# EAGLE library part ISP2032T (library my_relai)
Lattice isp2032T Electrically Programmable and Erasable Chip
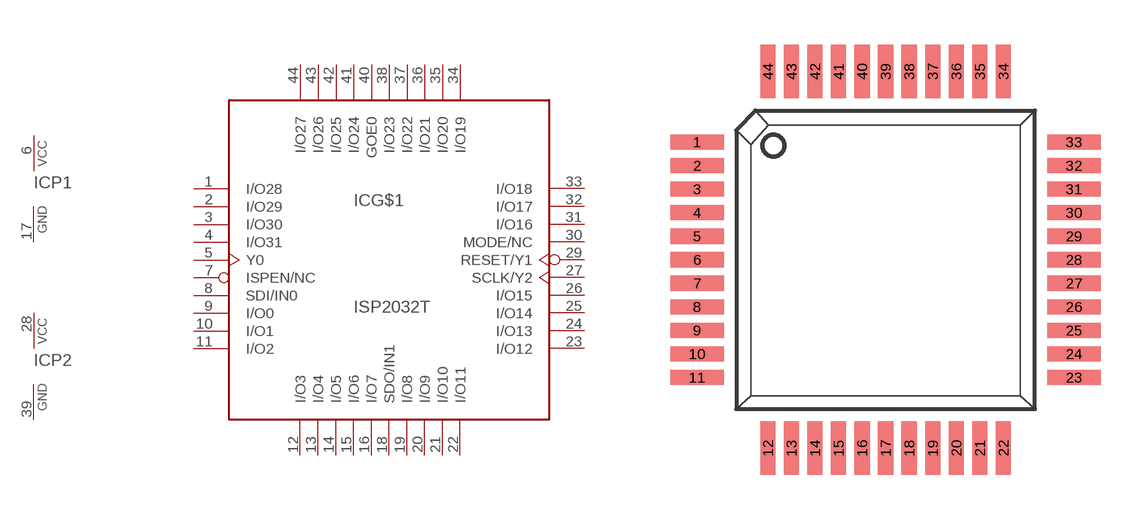
[diagram p2: symbol with the pads of QFP44; footprint QFP44]

Designator prefix IC; gates G$1=ISP2032T P1=PWRN P2=PWRN

## ISP2032T  [QFP44]
1  G$1:I/O28
2  G$1:I/O29
3  G$1:I/O30
4  G$1:I/O31
5  G$1:Y0  in
6  P1:VCC  pwr
7  G$1:ISPEN/NC  in
8  G$1:SDI/IN0  in
9  G$1:I/O0
10  G$1:I/O1
11  G$1:I/O2
12  G$1:I/O3
13  G$1:I/O4
14  G$1:I/O5
15  G$1:I/O6
16  G$1:I/O7
17  P1:GND  pwr
18  G$1:SDO/IN1
19  G$1:I/O8
20  G$1:I/O9
21  G$1:I/O10
22  G$1:I/O11
23  G$1:I/O12
24  G$1:I/O13
25  G$1:I/O14
26  G$1:I/O15
27  G$1:SCLK/Y2  in
28  P2:VCC  pwr
29  G$1:RESET/Y1  in
30  G$1:MODE/NC  in
31  G$1:I/O16
32  G$1:I/O17
33  G$1:I/O18
34  G$1:I/O19
35  G$1:I/O20
36  G$1:I/O21
37  G$1:I/O22
38  G$1:I/O23
39  P2:GND  pwr
40  G$1:GOE0  in
41  G$1:I/O24
42  G$1:I/O25
43  G$1:I/O26
44  G$1:I/O27

## Footprint QFP44 (pad centres in mm)
smd 1.778 x 0.508: 1 -6.299,3.937; 2 -6.299,3.15; 3 -6.299,2.362; 4 -6.299,1.575; 5 -6.299,0.787; 6 -6.299,0; 7 -6.299,-0.787; 8 -6.299,-1.575; 9 -6.299,-2.362; 10 -6.299,-3.15; 11 -6.299,-3.937; 23 6.299,-3.937; 24 6.299,-3.15; 25 6.299,-2.362; 26 6.299,-1.575; 27 6.299,-0.787; 28 6.299,0; 29 6.299,0.787; 30 6.299,1.575; 31 6.299,2.362; 32 6.299,3.15; 33 6.299,3.937
smd 0.508 x 1.778: 12 -3.937,-6.299; 13 -3.15,-6.299; 14 -2.362,-6.299; 15 -1.575,-6.299; 16 -0.787,-6.299; 17 0,-6.299; 18 0.787,-6.299; 19 1.575,-6.299; 20 2.362,-6.299; 21 3.15,-6.299; 22 3.937,-6.299; 34 3.937,6.299; 35 3.15,6.299; 36 2.362,6.299; 37 1.575,6.299; 38 0.787,6.299; 39 0,6.299; 40 -0.787,6.299; 41 -1.575,6.299; 42 -2.362,6.299; 43 -3.15,6.299; 44 -3.937,6.299